# Altium integrated library MF-IC_DIGITAL.IntLib: 2 symbols
Pins are listed as number, name and electrical type; pins without a type are passive.

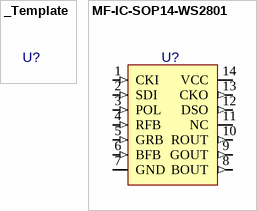
[diagram p0: symbols _Template to MF-IC-SOP14-WS2801]

## _Template
designator U?  (value not drawn)
Type: *; Operating Temperature Range: *; RoHS: *; Operating Supply Voltage: *; Package: *; ComponentLink1Description: Datasheet; ComponentLink1URL: *; ComponentLink2Description: Supplier Link 1; ComponentLink2URL: *; Supplier 1: Macrofab; Supplier Part Number 1: *; Manufacturer 1: *; Manufacturer Part Number 1: *

## MF-IC-SOP14-WS2801
designator U?  (value not drawn)
WS2801 3-channel constant current RGB LED driver SOP-14; Manufacturer 1: Worldsemi; Operating Supply Voltage: 3.3V to 5.5V; Type: LED Driver; Operating Temperature Range: - 40 C to + 85 C; RoHS: Compliant; Package: SOP-14; ComponentLink1Description: Datasheet; ComponentLink1URL: https://s3.amazonaws.com/devpublic1/datasheets/WS2801.pdf; ComponentLink2Description: Supplier Link 1; ComponentLink2URL: https://factory.macrofab.com/part/MF-IC-SOP14-WS2801; Supplier 1: Macrofab; Supplier Part Number 1: MF-IC-SOP14-WS2801; Manufacturer Part Number 1: WS2801
footprint SOP-14 (SOIC, 14-Leads, Body 8.56x3.95mm, Pitch 1.27mm, IPC Medium Density)
pins: 1 CKI (in), 2 SDI (in), 3 POL (in), 4 RFB (in), 5 GRB (in), 6 BFB (in), 7 GND (power), 8 BOUT (out), 9 GOUT (out), 10 ROUT (out), 11 NC, 12 DSO (out), 13 CKO (out), 14 VCC (power)